# Altium schematic symbol library Schlib1.SchLib: 10 symbols
Pins are listed as number, name and electrical type; pins without a type are passive.

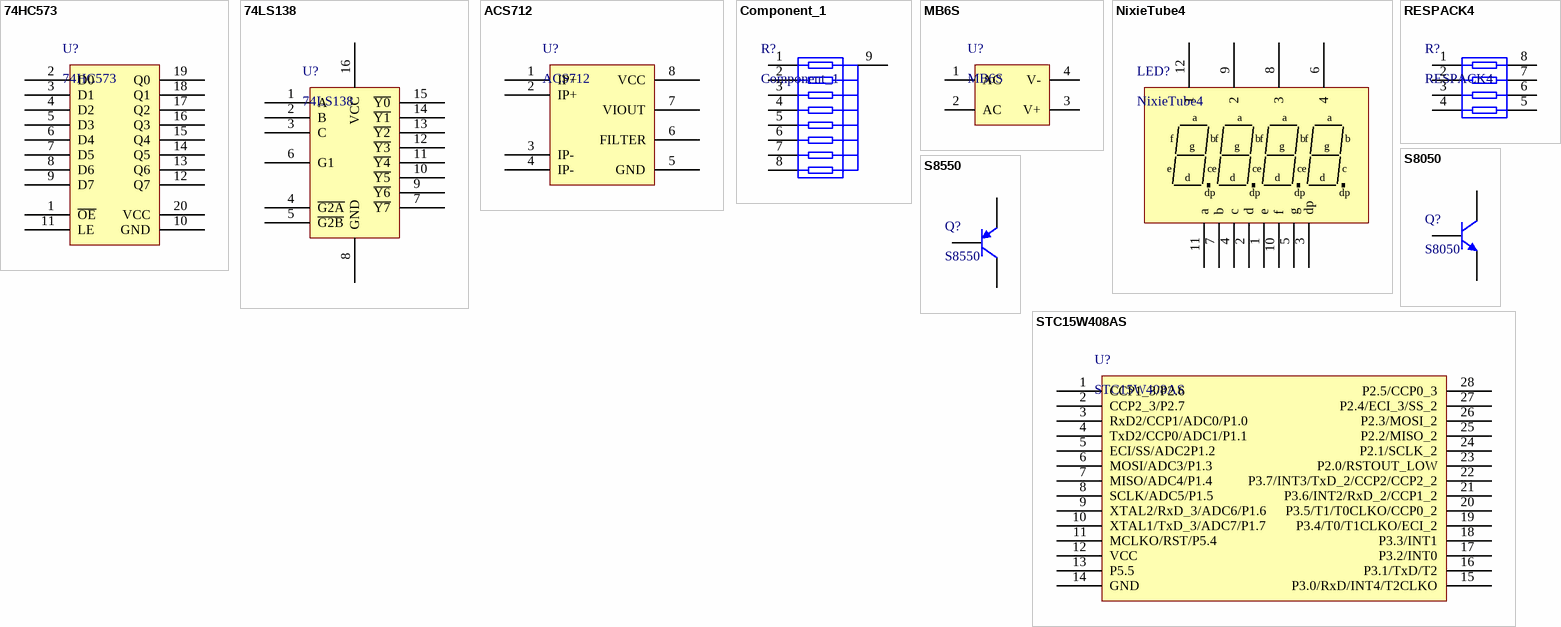
[diagram p0: symbols 74HC573 to STC15W408AS]

## 74HC573
designator U?
pins: 1 ~{OE}, 2 D0, 3 D1, 4 D2, 5 D3, 6 D4, 7 D5, 8 D6, 9 D7, 10 GND, 11 LE, 12 Q7, 13 Q6, 14 Q5, 15 Q4, 16 Q3, 17 Q2, 18 Q1, 19 Q0, 20 VCC

## 74LS138
designator U?
pins: 1 A, 2 B, 3 C, 4 ~{G2A}, 5 ~{G2B}, 6 G1, 7 ~{Y7}, 8 GND, 9 ~{Y6}, 10 ~{Y5}, 11 ~{Y4}, 12 ~{Y3}, 13 ~{Y2}, 14 ~{Y1}, 15 ~{Y0}, 16 VCC

## ACS712
designator U?
pins: 1 IP+, 2 IP+, 3 IP-, 4 IP-, 5 GND, 6 FILTER, 7 VIOUT, 8 VCC

## Component_1
designator R?
pins: 1, 2, 3, 4, 5, 6, 7, 8, 9

## MB6S
designator U?
pins: 1 AC, 2 AC, 3 V+, 4 V-

## NixieTube4
designator LED?
pins: 1 e, 2 d, 3 dp, 4 c, 5 g, 6 4, 7 b, 8 3, 9 2, 10 f, 11 a, 12 1

## RESPACK4
designator R?
pins: 1, 2, 3, 4, 5, 6, 7, 8

## S8050
designator Q?
footprint SOT23
pins: 1 B, 2 E, 3 C

## S8550
designator Q?
footprint SOT23
pins: 1 B, 2 E, 3 C

## STC15W408AS
designator U?
pins: 1 CCP1_3/P2.6, 2 CCP2_3/P2.7, 3 RxD2/CCP1/ADC0/P1.0, 4 TxD2/CCP0/ADC1/P1.1, 5 ECI/SS/ADC2P1.2, 6 MOSI/ADC3/P1.3, 7 MISO/ADC4/P1.4, 8 SCLK/ADC5/P1.5, 9 XTAL2/RxD_3/ADC6/P1.6, 10 XTAL1/TxD_3/ADC7/P1.7, 11 MCLKO/RST/P5.4, 12 VCC, 13 P5.5, 14 GND, 15 P3.0/RxD/INT4/T2CLKO, 16 P3.1/TxD/T2, 17 P3.2/INT0, 18 P3.3/INT1, 19 P3.4/T0/T1CLKO/ECI_2, 20 P3.5/T1/T0CLKO/CCP0_2, 21 P3.6/INT2/RxD_2/CCP1_2, 22 P3.7/INT3/TxD_2/CCP2/CCP2_2, 23 P2.0/RSTOUT_LOW, 24 P2.1/SCLK_2, 25 P2.2/MISO_2, 26 P2.3/MOSI_2, 27 P2.4/ECI_3/SS_2, 28 P2.5/CCP0_3